# EAGLE library part OPALKELLY_XEM6010 (library harrison)
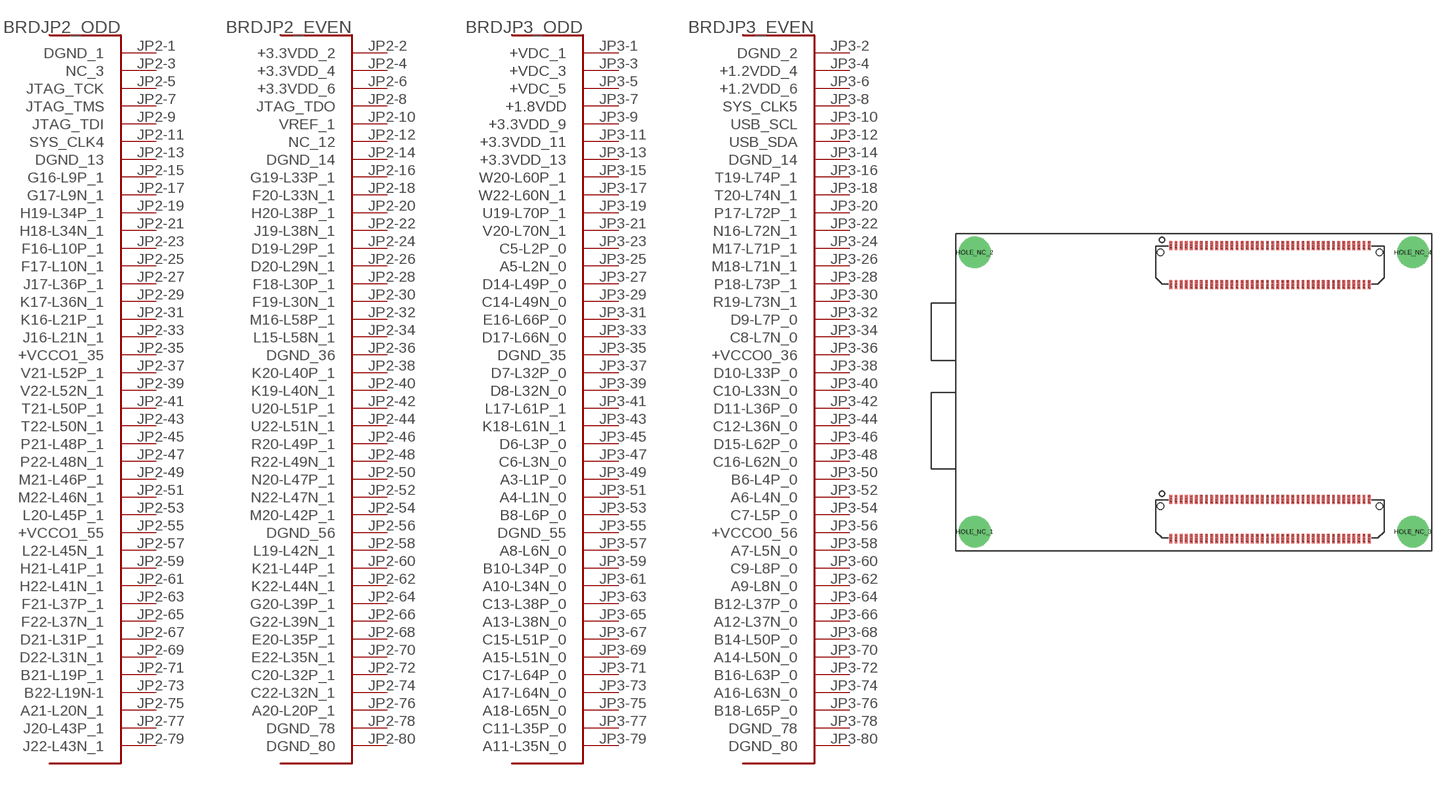
[diagram p73: symbol with the pads of OPALKELLY_XEM6010; footprint OPALKELLY_XEM6010]

Designator prefix BRD; gates JP2_ODD=XEM6010_JP2_ODD JP2_EVEN=XEM6010_JP2_EVEN JP3_ODD=XEM6010_JP3_ODD JP3_EVEN=XEM6010_JP3_EVEN

## OPALKELLY_XEM6010  [OPALKELLY_XEM6010]
JP2-1  JP2_ODD:DGND_1  pwr
JP2-2  JP2_EVEN:+3.3VDD_2  pwr
JP2-3  JP2_ODD:NC_3  nc
JP2-4  JP2_EVEN:+3.3VDD_4  pwr
JP2-5  JP2_ODD:JTAG_TCK
JP2-6  JP2_EVEN:+3.3VDD_6  pwr
JP2-7  JP2_ODD:JTAG_TMS
JP2-8  JP2_EVEN:JTAG_TDO
JP2-9  JP2_ODD:JTAG_TDI
JP2-10  JP2_EVEN:VREF_1  in
JP2-11  JP2_ODD:SYS_CLK4  out
JP2-12  JP2_EVEN:NC_12  nc
JP2-13  JP2_ODD:DGND_13  pwr
JP2-14  JP2_EVEN:DGND_14  pwr
JP2-15  JP2_ODD:G16-L9P_1
JP2-16  JP2_EVEN:G19-L33P_1
JP2-17  JP2_ODD:G17-L9N_1
JP2-18  JP2_EVEN:F20-L33N_1
JP2-19  JP2_ODD:H19-L34P_1
JP2-20  JP2_EVEN:H20-L38P_1
JP2-21  JP2_ODD:H18-L34N_1
JP2-22  JP2_EVEN:J19-L38N_1
JP2-23  JP2_ODD:F16-L10P_1
JP2-24  JP2_EVEN:D19-L29P_1
JP2-25  JP2_ODD:F17-L10N_1
JP2-26  JP2_EVEN:D20-L29N_1
JP2-27  JP2_ODD:J17-L36P_1
JP2-28  JP2_EVEN:F18-L30P_1
JP2-29  JP2_ODD:K17-L36N_1
JP2-30  JP2_EVEN:F19-L30N_1
JP2-31  JP2_ODD:K16-L21P_1
JP2-32  JP2_EVEN:M16-L58P_1
JP2-33  JP2_ODD:J16-L21N_1
JP2-34  JP2_EVEN:L15-L58N_1
JP2-35  JP2_ODD:+VCCO1_35  pwr
JP2-36  JP2_EVEN:DGND_36  pwr
JP2-37  JP2_ODD:V21-L52P_1
JP2-38  JP2_EVEN:K20-L40P_1
JP2-39  JP2_ODD:V22-L52N_1
JP2-40  JP2_EVEN:K19-L40N_1
JP2-41  JP2_ODD:T21-L50P_1
JP2-42  JP2_EVEN:U20-L51P_1
JP2-43  JP2_ODD:T22-L50N_1
JP2-44  JP2_EVEN:U22-L51N_1
JP2-45  JP2_ODD:P21-L48P_1
JP2-46  JP2_EVEN:R20-L49P_1
JP2-47  JP2_ODD:P22-L48N_1
JP2-48  JP2_EVEN:R22-L49N_1
JP2-49  JP2_ODD:M21-L46P_1
JP2-50  JP2_EVEN:N20-L47P_1
JP2-51  JP2_ODD:M22-L46N_1
JP2-52  JP2_EVEN:N22-L47N_1
JP2-53  JP2_ODD:L20-L45P_1
JP2-54  JP2_EVEN:M20-L42P_1
JP2-55  JP2_ODD:+VCCO1_55  pwr
JP2-56  JP2_EVEN:DGND_56  pwr
JP2-57  JP2_ODD:L22-L45N_1
JP2-58  JP2_EVEN:L19-L42N_1
JP2-59  JP2_ODD:H21-L41P_1
JP2-60  JP2_EVEN:K21-L44P_1
JP2-61  JP2_ODD:H22-L41N_1
JP2-62  JP2_EVEN:K22-L44N_1
JP2-63  JP2_ODD:F21-L37P_1
JP2-64  JP2_EVEN:G20-L39P_1
JP2-65  JP2_ODD:F22-L37N_1
JP2-66  JP2_EVEN:G22-L39N_1
JP2-67  JP2_ODD:D21-L31P_1
JP2-68  JP2_EVEN:E20-L35P_1
JP2-69  JP2_ODD:D22-L31N_1
JP2-70  JP2_EVEN:E22-L35N_1
JP2-71  JP2_ODD:B21-L19P_1
JP2-72  JP2_EVEN:C20-L32P_1
JP2-73  JP2_ODD:B22-L19N-1
JP2-74  JP2_EVEN:C22-L32N_1
JP2-75  JP2_ODD:A21-L20N_1
JP2-76  JP2_EVEN:A20-L20P_1
JP2-77  JP2_ODD:J20-L43P_1
JP2-78  JP2_EVEN:DGND_78  pwr
JP2-79  JP2_ODD:J22-L43N_1
JP2-80  JP2_EVEN:DGND_80  pwr
JP3-1  JP3_ODD:+VDC_1  pwr
JP3-2  JP3_EVEN:DGND_2  pwr
JP3-3  JP3_ODD:+VDC_3  pwr
JP3-4  JP3_EVEN:+1.2VDD_4  pwr
JP3-5  JP3_ODD:+VDC_5  pwr
JP3-6  JP3_EVEN:+1.2VDD_6  pwr
JP3-7  JP3_ODD:+1.8VDD  pwr
JP3-8  JP3_EVEN:SYS_CLK5  out
JP3-9  JP3_ODD:+3.3VDD_9  pwr
JP3-10  JP3_EVEN:USB_SCL
JP3-11  JP3_ODD:+3.3VDD_11  pwr
JP3-12  JP3_EVEN:USB_SDA
JP3-13  JP3_ODD:+3.3VDD_13  pwr
JP3-14  JP3_EVEN:DGND_14  pwr
JP3-15  JP3_ODD:W20-L60P_1
JP3-16  JP3_EVEN:T19-L74P_1
JP3-17  JP3_ODD:W22-L60N_1
JP3-18  JP3_EVEN:T20-L74N_1
JP3-19  JP3_ODD:U19-L70P_1
JP3-20  JP3_EVEN:P17-L72P_1
JP3-21  JP3_ODD:V20-L70N_1
JP3-22  JP3_EVEN:N16-L72N_1
JP3-23  JP3_ODD:C5-L2P_0
JP3-24  JP3_EVEN:M17-L71P_1
JP3-25  JP3_ODD:A5-L2N_0
JP3-26  JP3_EVEN:M18-L71N_1
JP3-27  JP3_ODD:D14-L49P_0
JP3-28  JP3_EVEN:P18-L73P_1
JP3-29  JP3_ODD:C14-L49N_0
JP3-30  JP3_EVEN:R19-L73N_1
JP3-31  JP3_ODD:E16-L66P_0
JP3-32  JP3_EVEN:D9-L7P_0
JP3-33  JP3_ODD:D17-L66N_0
JP3-34  JP3_EVEN:C8-L7N_0
JP3-35  JP3_ODD:DGND_35  pwr
JP3-36  JP3_EVEN:+VCCO0_36  pwr
JP3-37  JP3_ODD:D7-L32P_0
JP3-38  JP3_EVEN:D10-L33P_0
JP3-39  JP3_ODD:D8-L32N_0
JP3-40  JP3_EVEN:C10-L33N_0
JP3-41  JP3_ODD:L17-L61P_1
JP3-42  JP3_EVEN:D11-L36P_0
JP3-43  JP3_ODD:K18-L61N_1
JP3-44  JP3_EVEN:C12-L36N_0
JP3-45  JP3_ODD:D6-L3P_0
JP3-46  JP3_EVEN:D15-L62P_0
JP3-47  JP3_ODD:C6-L3N_0
JP3-48  JP3_EVEN:C16-L62N_0
JP3-49  JP3_ODD:A3-L1P_0
JP3-50  JP3_EVEN:B6-L4P_0
JP3-51  JP3_ODD:A4-L1N_0
JP3-52  JP3_EVEN:A6-L4N_0
JP3-53  JP3_ODD:B8-L6P_0
JP3-54  JP3_EVEN:C7-L5P_0
JP3-55  JP3_ODD:DGND_55  pwr
JP3-56  JP3_EVEN:+VCCO0_56  pwr
JP3-57  JP3_ODD:A8-L6N_0
JP3-58  JP3_EVEN:A7-L5N_0
JP3-59  JP3_ODD:B10-L34P_0
JP3-60  JP3_EVEN:C9-L8P_0
JP3-61  JP3_ODD:A10-L34N_0
JP3-62  JP3_EVEN:A9-L8N_0
JP3-63  JP3_ODD:C13-L38P_0
JP3-64  JP3_EVEN:B12-L37P_0
JP3-65  JP3_ODD:A13-L38N_0
JP3-66  JP3_EVEN:A12-L37N_0
JP3-67  JP3_ODD:C15-L51P_0
JP3-68  JP3_EVEN:B14-L50P_0
JP3-69  JP3_ODD:A15-L51N_0
JP3-70  JP3_EVEN:A14-L50N_0
JP3-71  JP3_ODD:C17-L64P_0
JP3-72  JP3_EVEN:B16-L63P_0
JP3-73  JP3_ODD:A17-L64N_0
JP3-74  JP3_EVEN:A16-L63N_0
JP3-75  JP3_ODD:A18-L65N_0
JP3-76  JP3_EVEN:B18-L65P_0
JP3-77  JP3_ODD:C11-L35P_0
JP3-78  JP3_EVEN:DGND_78  pwr
JP3-79  JP3_ODD:A11-L35N_0
JP3-80  JP3_EVEN:DGND_80  pwr

## Footprint OPALKELLY_XEM6010 (pad centres in mm)
drill 2.5 pad 5: HOLE_NC_1 3,3; HOLE_NC_2 3,47; HOLE_NC_3 72,3; HOLE_NC_4 72,47
smd 0.457 x 1.448: JP2-1 33.9,8.086; JP2-2 33.9,1.914; JP2-3 34.7,8.086; JP2-4 34.7,1.914; JP2-5 35.5,8.086; JP2-6 35.5,1.914; JP2-7 36.3,8.086; JP2-8 36.3,1.914; JP2-9 37.1,8.086; JP2-10 37.1,1.914; JP2-11 37.9,8.086; JP2-12 37.9,1.914; JP2-13 38.7,8.086; JP2-14 38.7,1.914; JP2-15 39.5,8.086; JP2-16 39.5,1.914; JP2-17 40.3,8.086; JP2-18 40.3,1.914; JP2-19 41.1,8.086; JP2-20 41.1,1.914; JP2-21 41.9,8.086; JP2-22 41.9,1.914; JP2-23 42.7,8.086; JP2-24 42.7,1.914; JP2-25 43.5,8.086; JP2-26 43.5,1.914; JP2-27 44.3,8.086; JP2-28 44.3,1.914; JP2-29 45.1,8.086; JP2-30 45.1,1.914; JP2-31 45.9,8.086; JP2-32 45.9,1.914; JP2-33 46.7,8.086; JP2-34 46.7,1.914; JP2-35 47.5,8.086; JP2-36 47.5,1.914; JP2-37 48.3,8.086; JP2-38 48.3,1.914; JP2-39 49.1,8.086; JP2-40 49.1,1.914; JP2-41 49.9,8.086; JP2-42 49.9,1.914; JP2-43 50.7,8.086; JP2-44 50.7,1.914; JP2-45 51.5,8.086; JP2-46 51.5,1.914; JP2-47 52.3,8.086; JP2-48 52.3,1.914; JP2-49 53.1,8.086; JP2-50 53.1,1.914; JP2-51 53.9,8.086; JP2-52 53.9,1.914; JP2-53 54.7,8.086; JP2-54 54.7,1.914; JP2-55 55.5,8.086; JP2-56 55.5,1.914; JP2-57 56.3,8.086; JP2-58 56.3,1.914; JP2-59 57.1,8.086; JP2-60 57.1,1.914; JP2-61 57.9,8.086; JP2-62 57.9,1.914; JP2-63 58.7,8.086; JP2-64 58.7,1.914; JP2-65 59.5,8.086; JP2-66 59.5,1.914; JP2-67 60.3,8.086; JP2-68 60.3,1.914; JP2-69 61.1,8.086; JP2-70 61.1,1.914; JP2-71 61.9,8.086; JP2-72 61.9,1.914; JP2-73 62.7,8.086; JP2-74 62.7,1.914; JP2-75 63.5,8.086; JP2-76 63.5,1.914; JP2-77 64.3,8.086; JP2-78 64.3,1.914; JP2-79 65.1,8.086; JP2-80 65.1,1.914; JP3-1 33.9,48.086; JP3-2 33.9,41.914; JP3-3 34.7,48.086; JP3-4 34.7,41.914; JP3-5 35.5,48.086; JP3-6 35.5,41.914; JP3-7 36.3,48.086; JP3-8 36.3,41.914; JP3-9 37.1,48.086; JP3-10 37.1,41.914; JP3-11 37.9,48.086; JP3-12 37.9,41.914; JP3-13 38.7,48.086; JP3-14 38.7,41.914; JP3-15 39.5,48.086; JP3-16 39.5,41.914; JP3-17 40.3,48.086; JP3-18 40.3,41.914; JP3-19 41.1,48.086; JP3-20 41.1,41.914; JP3-21 41.9,48.086; JP3-22 41.9,41.914; JP3-23 42.7,48.086; JP3-24 42.7,41.914; JP3-25 43.5,48.086; JP3-26 43.5,41.914; JP3-27 44.3,48.086; JP3-28 44.3,41.914; JP3-29 45.1,48.086; JP3-30 45.1,41.914; JP3-31 45.9,48.086; JP3-32 45.9,41.914; JP3-33 46.7,48.086; JP3-34 46.7,41.914; JP3-35 47.5,48.086; JP3-36 47.5,41.914; JP3-37 48.3,48.086; JP3-38 48.3,41.914; JP3-39 49.1,48.086; JP3-40 49.1,41.914; JP3-41 49.9,48.086; JP3-42 49.9,41.914; JP3-43 50.7,48.086; JP3-44 50.7,41.914; JP3-45 51.5,48.086; JP3-46 51.5,41.914; JP3-47 52.3,48.086; JP3-48 52.3,41.914; JP3-49 53.1,48.086; JP3-50 53.1,41.914; JP3-51 53.9,48.086; JP3-52 53.9,41.914; JP3-53 54.7,48.086; JP3-54 54.7,41.914; JP3-55 55.5,48.086; JP3-56 55.5,41.914; JP3-57 56.3,48.086; JP3-58 56.3,41.914; JP3-59 57.1,48.086; JP3-60 57.1,41.914; JP3-61 57.9,48.086; JP3-62 57.9,41.914; JP3-63 58.7,48.086; JP3-64 58.7,41.914; JP3-65 59.5,48.086; JP3-66 59.5,41.914; JP3-67 60.3,48.086; JP3-68 60.3,41.914; JP3-69 61.1,48.086; JP3-70 61.1,41.914; JP3-71 61.9,48.086; JP3-72 61.9,41.914; JP3-73 62.7,48.086; JP3-74 62.7,41.914; JP3-75 63.5,48.086; JP3-76 63.5,41.914; JP3-77 64.3,48.086; JP3-78 64.3,41.914; JP3-79 65.1,48.086; JP3-80 65.1,41.914
hole 1.016 at 32.261,47.032
hole 1.016 at 66.739,47.032
hole 1.016 at 32.261,7.032
hole 1.016 at 66.739,7.032